# Altium integrated library BOARD_PFC.IntLib: 1 symbol
Pins are listed as number, name and electrical type; pins without a type are passive.

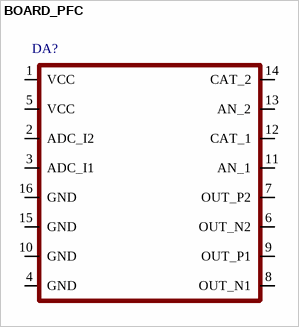
[diagram p0: symbol BOARD_PFC]

## BOARD_PFC
designator DA?
footprint BOARD_PFC
pins: 1 VCC, 2 ADC_I2, 3 ADC_I1, 4 GND, 5 VCC, 6 OUT_N2, 7 OUT_P2, 8 OUT_N1, 9 OUT_P1, 10 GND, 11 AN_1, 12 CAT_1, 13 AN_2, 14 CAT_2, 15 GND, 16 GND